# Altium footprint library SClib.PcbLib: 10 footprints
Each footprint in its own frame and in the unit in brackets; x right, y up, seen from the top. Pads: shape width x height; smd on the part's side, far side on the other; paste and mask are expansions set on the pad; w line width, h text height; cw(c..) or ccw(c..) is an arc to the next point about the centre after c.
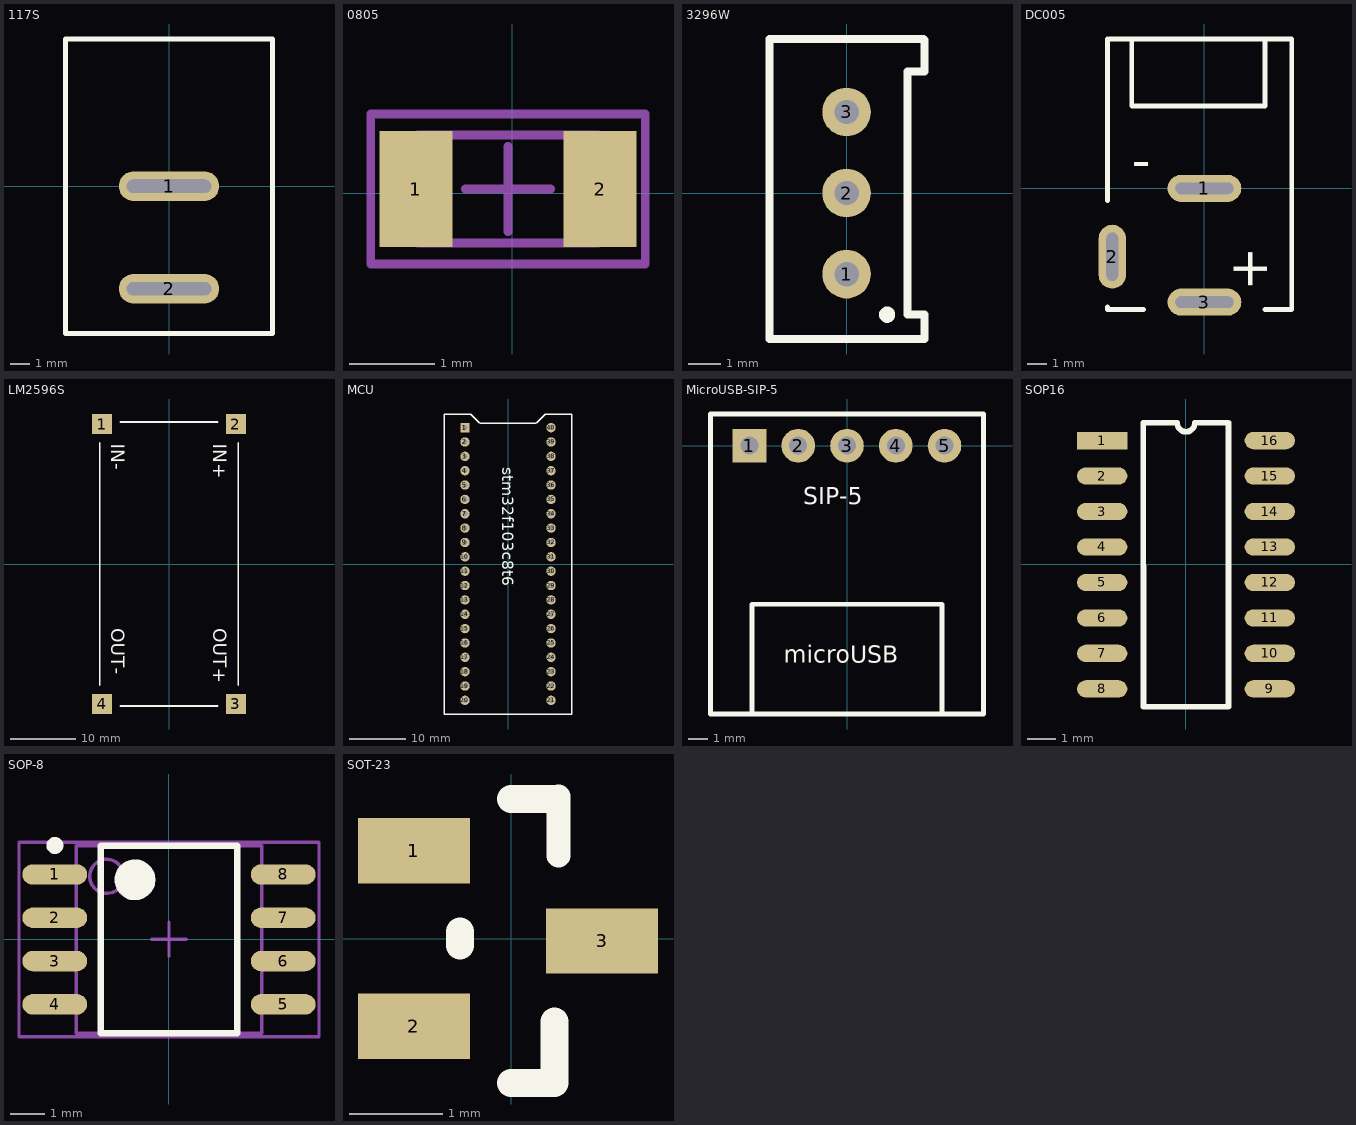
[diagram p0: the footprints below, top view; thin cyan lines are the x and y axes]

## 117S [mil] "船形开关"
pads (2):
  oval 202x60 hole 27 slot 170 at 0 deg: 1(0,0) 2(0,-206.25)
Top Overlay:
  lines w10: -208,-296 -208,296 208,296 208,-296 -208,-296

## 0805 [mm] "贴片阻容"
pads (2):
  rect 0.85x1.35 smd: 1(-1.126,0.051) 2(1.024,0.051)
Mechanical 13:
  lines w0.1: -1.101,-0.579 -1.101,0.681 0.999,0.681 0.999,-0.579 -1.101,-0.579
Mechanical 15:
  lines w0.1: -0.551,0.051 0.449,0.051 ; -0.051,-0.449 -0.051,0.551 ; -1.651,-0.824 -1.651,0.926 1.549,0.926 1.549,-0.824 -1.651,-0.824
3D body: height 0.6, standoff 0, extent -1.101,-0.579 0.999,0.681

## 3296W [mil] "精密电位计"
pads (3):
  round 60 hole 30: 1(0,-100) 2(0,0) 3(0,100)
Top Overlay:
  circle w10: c50,-150 r5
  lines w10: -95,-180 96,-180 96,-150 75,-150 75,150 96,150 96,189 95,190 -95,190 -95,-180

## DC005 [mil] "直流电源插座"
pads (3):
  oval 152x56 hole 24 slot 120 at 0 deg: 1(0,0) 3(0,-234.75)
  oval 56x132 hole 24 slot 100 at 90 deg: 2(-190,-141)
Top Overlay:
  lines w10: -200,-245 -200,-250 -125,-250 ; -200,-25 -200,308 ; -195,308 180,308 180,-250 125,-250 ; -150,305 -150,170 125,170 125,305
  text "-" at -150,20 h80
  text "+" at 60,-120 h80
Multi-Layer:
  lines w10: -45,0 0,0
  lines w50: -185,-140 -45,0

## LM2596S [mil] "直流降压模块"
pads (4):
  rect 120x120 smd: 1(-400,837.5) 2(400,837.5) 3(400,-837.5) 4(-400,-837.5)
Top Overlay:
  lines w10: -415,-725 -415,725 ; -290,-850 290,-850 ; -290,850 290,850 ; 415,-725 415,725
  text "OUT-" at -345,-385 h80
  text "OUT+" at 265,-385 h80
  text "IN+" at 265,720 h80
  text "IN-" at -345,720 h80

## MCU [mil] "STM32F103C8T6"
pads (40):
  rect 65x65 hole 35: 1(-300,950)
  round 65 hole 35: 2(-300,850) 3(-300,750) 4(-300,650) 5(-300,550) 6(-300,450) 7(-300,350) 8(-300,250) 9(-300,150) 10(-300,50) 11(-300,-50) 12(-300,-150) 13(-300,-250) 14(-300,-350) 15(-300,-450) 16(-300,-550) 17(-300,-650) 18(-300,-750) 19(-300,-850) 20(-300,-950) 21(300,-950) 22(300,-850) 23(300,-750) 24(300,-650) 25(300,-550) 26(300,-450) 27(300,-350) 28(300,-250) 29(300,-150) 30(300,-50) 31(300,50) 32(300,150) 33(300,250) 34(300,350) 35(300,450) 36(300,550) 37(300,650) 38(300,750) 39(300,850) 40(300,950)
Top Overlay:
  lines w10: -260,1045 -200,985 ; -257.5,1045 -442.5,1045 -442.5,-1045 442.5,-1045 442.5,1045 257.5,1045 ; -198.5,981 198.5,981 ; 200,985 255,1040
  text "stm32f103c8t6" at -40,675 h80

## MicroUSB-SIP-5 [mil] "microUSB转SIP5接口"
pads (5):
  rect 69x69 hole 37: 1(-200,0)
  round 69 hole 37: 2(-100,0) 3(0,0) 4(100,0) 5(200,0)
Top Overlay:
  lines w10: -195,-550 -195,-325 195,-325 195,-550 ; -280,-550 280,-550 280,65 -280,65 -280,-550
  text "microUSB" at -130,-445 h35
  text "SIP-5" at -90,-120 h35

## SOP16 [mm] "16脚贴片元件"
pads (16):
  rect 1.8x0.62 smd: 1(-2.997,4.42)
  oval 1.8x0.62 smd: 2(-2.997,3.15) 3(-2.997,1.88) 4(-2.997,0.61) 5(-2.997,-0.66) 6(-2.997,-1.93) 7(-2.997,-3.2) 8(-2.997,-4.47) 9(3.003,-4.47) 10(3.003,-3.2) 11(3.003,-1.93) 12(3.003,-0.66) 13(3.003,0.61) 14(3.003,1.88) 15(3.003,3.15) 16(3.003,4.42)
Top Overlay:
  lines w0.2: -1.527,5.055 -1.519,-5.105 1.524,-5.105 1.524,5.055 0.32,5.055 cw(c0.003,5.055) -0.315,5.055 -1.527,5.055

## SOP-8 [mm] "8管脚贴片元件"
pads (8):
  oval 1.9x0.6 smd: 1(-3.35,1.905) 2(-3.35,0.635) 3(-3.35,-0.635) 4(-3.35,-1.905) 5(3.35,-1.905) 6(3.35,-0.635) 7(3.35,0.635) 8(3.35,1.905)
Top Overlay:
  circle w0.25: c-3.35,2.755 r0.125
  circle w0.6: c-1,1.75 r0.3
  lines w0.2: -2,-2.75 -2,2.75 2,2.75 2,-2.75 -2,-2.75
Mechanical 13:
  circle w0.1: c-1.825,1.85 r0.5
  lines w0.1: -2.725,-2.75 -2.725,2.75 2.725,2.75 2.725,-2.75 -2.725,-2.75
Mechanical 15:
  lines w0.1: -0.5,0 0.5,0 ; 0,-0.5 0,0.5 ; -4.4,-2.85 -4.4,2.85 4.4,2.85 4.4,-2.85 -4.4,-2.85
3D body: height 2.13, standoff 0, extent -2.725,-2.75 2.725,2.75

## SOT-23 [mm] "贴片三极管"
pads (3):
  rect 1.2x0.7 smd: 1(-1.041,0.94) 2(-1.041,-0.94) 3(0.975,-0.025)
Top Overlay:
  lines w0.254: 0.508,0.889 0.508,1.524
  lines w0.3: -0.549,-0.076 -0.549,0.076 ; 0,-1.549 0.467,-1.549 0.467,-0.889 ; 0,1.499 0.467,1.499